# Altium footprint library LTR-329ALS-01.PcbLib: 1 footprints
Each footprint in its own frame and in the unit in brackets; x right, y up, seen from the top. Pads: shape width x height; smd on the part's side, far side on the other; paste and mask are expansions set on the pad; w line width, h text height; cw(c..) or ccw(c..) is an arc to the next point about the centre after c.
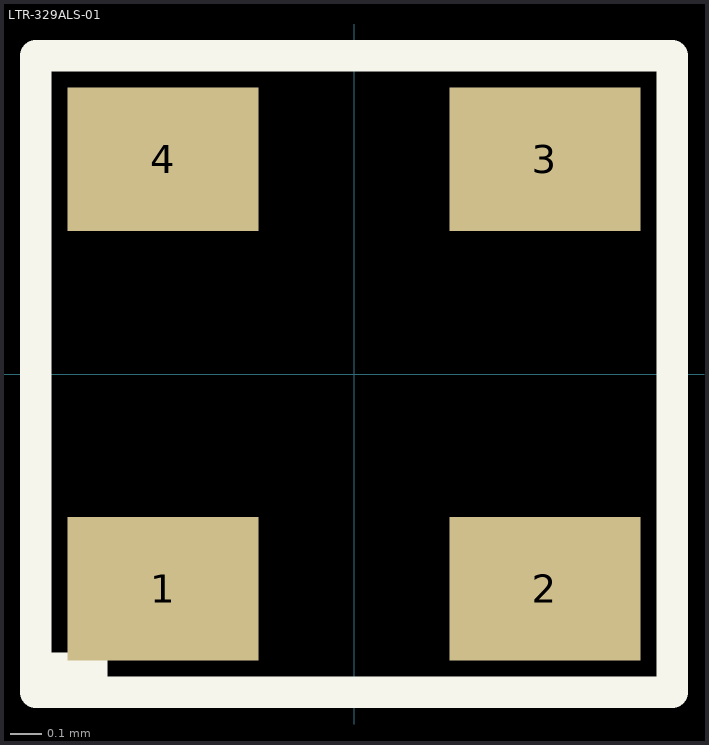
[diagram p0: the footprint, top view; thin cyan lines are the x and y axes]

## LTR-329ALS-01 [mm] "Optical Sensor Ambient I²C 4-VDFN"
pads (4):
  rect 0.6x0.45 smd: 1(-0.6,-0.675) 2(0.6,-0.675) 3(0.6,0.675) 4(-0.6,0.675)
Top Overlay:
  rectangle: -0.95,-0.95 -0.775,-0.875
  lines w0.1: -1,-1 -1,1 1,1 1,-1 -1,-1
3D body: height 1.2, standoff 0, extent -1,-1 1,1